# Altium schematic symbol library Oktay97-OT_Library.SchLib: 513 symbols (part 2 of 4)
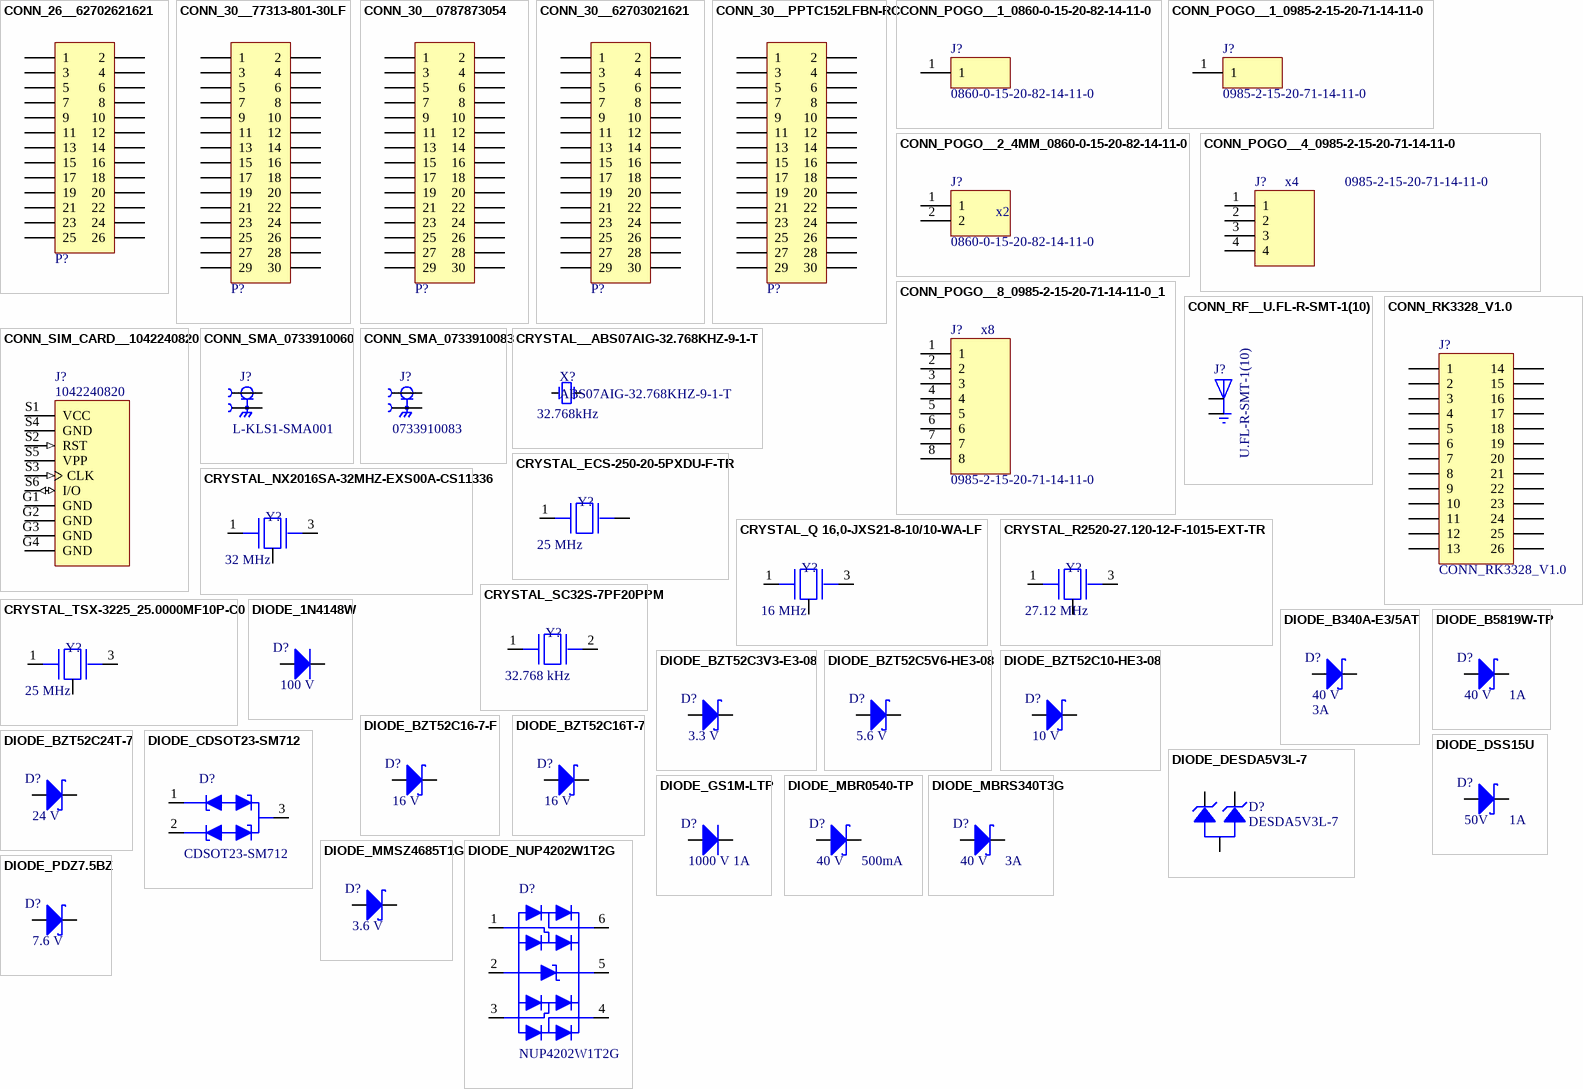
[diagram p18: symbols CONN_26__62702621621 to DIODE_PDZ7.5BZ]

## CRYSTAL_ECS-250-20-5PXDU-F-TR
designator Y?, comment Frequency: 25 MHz  (hidden comment: ECS-250-20-5PXDU-F-TR)
CRYSTAL 25.0000MHZ 20PF SMD; Manufacturer: ECS Inc.; Manufacturer Part Number: ECS-250-20-5PXDU-F-TR; Datasheet: https://ecsxtal.com/store/pdf/CSM_7X_DU.pdf; LCSC Part: C2450279
footprint OSC_SMD_HC-49/US (Crystal, 2-Leads, Body 4.70x11.40mm, Pitch 8.80mm, IPC Medium Density)
pins: 1, 2 (power)

## CRYSTAL_NX2016SA-32MHZ-EXS00A-CS11336
designator Y?, comment Frequency: 32 MHz  (hidden comment: NX2016SA-32MHZ-EXS00A-CS11336)
CRYSTAL 32.0000MHZ 8PF SMD; Manufacturer: NDK America, Inc.; Manufacturer Part Number: NX2016SA-32MHZ-EXS00A-CS11336; Datasheet: https://media.digikey.com/pdf/Data%20Sheets/NDK%20PDFs/NX2016SA-32MHz-EXS00A-CS11336.pdf; LCSC Part: C6134317; LCSC Part 2: C843260
footprint 4-SMD (0.126" L x 0.098" W (3.20mm x 2.50mm))
pins: 1, 2 GND (power), 3 2, 4 GND (power)

## CRYSTAL_Q 16,0-JXS21-8-10/10-WA-LF
designator Y?, comment Frequency: 16 MHz  (hidden comment: Q 16,0-JXS21-8-10/10-WA-LF)
CRYSTAL 16.0000MHZ 8PF SMD; Manufacturer: Jauch Quartz; Manufacturer Part Number: Q 16,0-JXS21-8-10/10-WA-LF; LCSC Part: C7294669
footprint CRYSTAL_4-SMD(2X1.6) (0.079" L x 0.063" W (2.00mm x 1.60mm))
pins: 1, 2 GND (power), 3 2, 4 GND (power)

## CRYSTAL_R2520-27.120-12-F-1015-EXT-TR
designator Y?, comment Frequency: 27.12 MHz  (hidden comment: R2520-27.120-12-F-1015-EXT-TR)
CRYSTAL 27.1200MHZ 12PF SMD; Manufacturer: Raltron Electronics; Manufacturer Part Number: R2520-27.120-12-F-1015-EXT-TR
footprint OSC_2.50mmX2.00mm (0.098" L x 0.079" W (2.50mm x 2.00mm))
pins: 1, 2 GND (power), 3 2, 4 GND (power)

## CRYSTAL_SC32S-7PF20PPM
designator Y?, comment Frequency: 32.768 kHz  (hidden comment: SC32S-7PF20PPM)
CRYSTAL 32.7680KHZ 7PF SMD; Manufacturer: Seiko Instruments; Manufacturer Part Number: SC32S-7PF20PPM; LCSC Part 2: C97604; LCSC Part: *
footprint 2-SMD, No Lead (0.126" L x 0.059" W (3.20mm x 1.50mm))
pins: 1, 2

## CRYSTAL_TSX-3225_25.0000MF10P-C0
designator Y?, comment Frequency: 25 MHz  (hidden comment: TSX-3225 25.0000MF10P-C0)
CRYSTAL 25.0000MHZ 18PF SMD; Manufacturer: EPSON; Manufacturer Part Number: TSX-3225 25.0000MF10P-C0; Datasheet: https://support.epson.biz/td/api/doc_check.php?dl=brief_TSX-3225&lang=en; LCSC Part: C179643
footprint 4-SMD (Footprint not found)
pins: 1, 2 GND (power), 3 2, 4 GND (power)

## DIODE_1N4148W
designator D?, comment Voltage - DC Reverse (Vr) (Max): 100 V  (hidden comment: 1N4148WS-HG3-08)
DIODE GEN PURP 100V 150MA SOD323; Manufacturer: Vishay General Semiconductor - Diodes Division; Manufacturer Part Number: 1N4148WS-HG3-08; Datasheet: https://www.mccsemi.com/pdf/Products/GS1A-L~GS1M-L(DO-214AC).pdf; Current - Average Rectified (Io): 150mA; LCSC Part: C3313072
footprint SOD-323 (SC-76, SOD-323)
pins: 1 K, 2 A

## DIODE_B340A-E3/5AT
designator D?, comment Voltage - DC Reverse (Vr) (Max): 40 V  Current - Average Rectified (Io): 3A  (hidden comment: B340A-E3/5AT)
DIODE SCHOTTKY 30V 1A SOD123W; Manufacturer: Vishay General Semiconductor - Diodes Division; Manufacturer Part Number: B340A-E3/5AT; LCSC Part: C15570
footprint DO-214AC (SMA)
pins: 1 K, 2 A

## DIODE_B5819W-TP
designator D?, comment Voltage - DC Reverse (Vr) (Max): 40 V  Current - Average Rectified (Io): 1A  (hidden comment: B5819W-TP)
DIODE SCHOTTKY 40V 1A SOD123; Manufacturer: Micro Commercial Co; Manufacturer Part Number: B5819W-TP; Datasheet: https://www.mccsemi.com/pdf/Products/B5817W-B5819W(SOD-123).pdf
footprint SOD-123
pins: 1 K, 2 A

## DIODE_BZT52C3V3-E3-08
designator D?, comment Voltage - Zener (Nom) (Vz): 3.3 V  (hidden comment: BZT52C3V3-E3-08)
DIODE ZENER 3.3V 410MW SOD123; Manufacturer: Vishay General Semiconductor - Diodes Division; Manufacturer Part Number: BZT52C3V3-E3-08; Datasheet: https://www.vishay.com/docs/86342/bzt52_series.pdf; Power - Max: 410 mW
footprint SOD-123W
pins: 1 K, 2 A

## DIODE_BZT52C5V6-HE3-08
designator D?, comment Voltage - Zener (Nom) (Vz): 5.6 V  (hidden comment: BZT52C5V6-HE3-08)
DIODE ZENER 5.6V 410MW SOD123; Manufacturer: Vishay General Semiconductor - Diodes Division; Manufacturer Part Number: BZT52C5V6-HE3-08; Datasheet: https://www.vishay.com/docs/86342/bzt52_series.pdf; Power - Max: 410 mW
footprint SOD-123W
pins: 1 K, 2 A

## DIODE_BZT52C10-HE3-08
designator D?, comment Voltage - Zener (Nom) (Vz): 10 V  (hidden comment: BZT52C10-HE3-08)
DIODE ZENER 10V 410MW SOD123; Manufacturer: Vishay General Semiconductor - Diodes Division; Manufacturer Part Number: BZT52C10-HE3-08; Datasheet: https://www.vishay.com/docs/86342/bzt52_series.pdf; Power - Max: 410 mW; LCSC Part: C3728418; LCSC Part 2: C2103
footprint SOD-123W
pins: 1 K, 2 A

## DIODE_BZT52C16-7-F
designator D?, comment Voltage - Zener (Nom) (Vz): 16 V  (hidden comment: BZT52C16-7-F)
DIODE ZENER 16V 500MW SOD123; Manufacturer: Diodes Incorporated; Manufacturer Part Number: BZT52C16-7-F; Power - Max: 500 mW
footprint SOD-123
pins: 1 K, 2 A

## DIODE_BZT52C16T-7
designator D?, comment Voltage - Zener (Nom) (Vz): 16 V  (hidden comment: BZT52C16T-7)
DIODE ZENER 16V 300MW SOD523; Manufacturer: Vishay General Semiconductor - Diodes Division; Manufacturer Part Number: BZT52C16T-7; Power - Max: 300 mW
footprint SOD-523 (SC-79, SOD-523)
pins: 1 K, 2 A

## DIODE_BZT52C24T-7
designator D?, comment Voltage - Zener (Nom) (Vz): 24 V  (hidden comment: BZT52C24T-7)
DIODE ZENER 24V 300MW SOD523; Manufacturer: Diodes Incorporated; Manufacturer Part Number: BZT52C24T-7; Power - Max: 300 mW; LCSC Part: C780794
footprint SOD-523 (SC-79, SOD-523)
pins: 1 K, 2 A

## DIODE_CDSOT23-SM712
designator D?, comment CDSOT23-SM712
TVS DIODE 7V/12V 14V/26V SOT23-3; Manufacturer: Bourns Inc.; Manufacturer Part Number: CDSOT23-SM712; Applications: RS-485; Datasheet: https://www.bourns.com/docs/Product-Datasheets/CDSOT23-SM712.pdf; LCSC Part: C404012
footprint SOT-23 (TO-236AB)
pins: 1 C1, 2 C2, 3 CC

## DIODE_DESDA5V3L-7
designator D?, comment DESDA5V3L-7
TVS DIODE 3VWM 15VC SOT23; Manufacturer: Diodes Incorporated; Manufacturer Part Number: DESDA5V3L-7
footprint SOT-23-3 (TO-236-3, SC-59, SOT-23-3)
pins: 1 K, 2 K, 3 A

## DIODE_DSS15U
designator D?, comment Voltage - DC Reverse (Vr) (Max): 50V  Current - Average Rectified (Io): 1A  (hidden comment: DSS15U)
DIODE SCHOTTKY 50V 1A SOD123FL; Manufacturer: SMC Diode Solutions; Manufacturer Part Number: DSS15U; LCSC Part: C3020461
footprint SOD123FL
pins: 1 K, 2 A

## DIODE_GS1M-LTP
designator D?, comment Voltage - DC Reverse (Vr) (Max): 1000 V  Current - Average Rectified (Io): 1A  (hidden comment: GS1M-LTP)
DIODE GEN PURP 1KV 1A DO214AC; Manufacturer: Micro Commercial Co; Manufacturer Part Number: GS1M-LTP; Datasheet: https://www.mccsemi.com/pdf/Products/GS1A-L~GS1M-L(DO-214AC).pdf; LCSC Part: C435833
footprint DO-214AC (SMA)
pins: 1 K, 2 A

## DIODE_MBR0540-TP
designator D?, comment Voltage - DC Reverse (Vr) (Max): 40 V  Current - Average Rectified (Io): 500mA  (hidden comment: MBR0540-TP)  (mechanical)
DIODE SCHOTTKY 40V 500MA SOD123; Manufacturer: Micro Commercial Co; Manufacturer Part Number: MBR0540-TP; LCSC Part: C232833
footprint SOD-123
pins: 1 K, 2 A

## DIODE_MBRS340T3G
designator D?, comment Voltage - DC Reverse (Vr) (Max): 40 V  Current - Average Rectified (Io): 3A  (hidden comment: MBRS340T3G)
DIODE SCHOTTKY 40V 3A SMC; Manufacturer: onsemi; Manufacturer Part Number: MBRS340T3G; LCSC Part: C40326
footprint DO-214AB (SMC)
pins: 1 K, 2 A

## DIODE_MMSZ4685T1G
designator D?, comment Voltage - Zener (Nom) (Vz): 3.6 V  (hidden comment: MMSZ4685T1G)
DIODE ZENER 3.6V 500MW SOD123; Manufacturer: onsemi; Manufacturer Part Number: MMSZ4685T1G; Power - Max: 500 mW; LCSC Part: C66886
footprint SOD-123
pins: 1 K, 2 A

## DIODE_NUP4202W1T2G
designator D?, comment NUP4202W1T2G
TVS DIODE 5VWM 14.5V SC88/SC70-6; Manufacturer: onsemi; Manufacturer Part Number: NUP4202W1T2G
footprint 6-TSSOP (6-TSSOP, SC-88, SOT-363)
pins: 1 I/O, 2 GND, 3 I/O, 4 I/O, 5 VCC, 6 I/O

## DIODE_PDZ7.5BZ
designator D?, comment Voltage - Zener (Nom) (Vz): 7.6 V  (hidden comment: PDZ7.5BZ)
DIODE ZENER 7.6V 400MW SOD323; Manufacturer: Nexperia USA Inc.; Manufacturer Part Number: PDZ7.5BZ; Power - Max: 400 mW; LCSC Part: C85404
footprint SOD-323 (SC-76, SOD-323)
pins: 1 K, 2 A

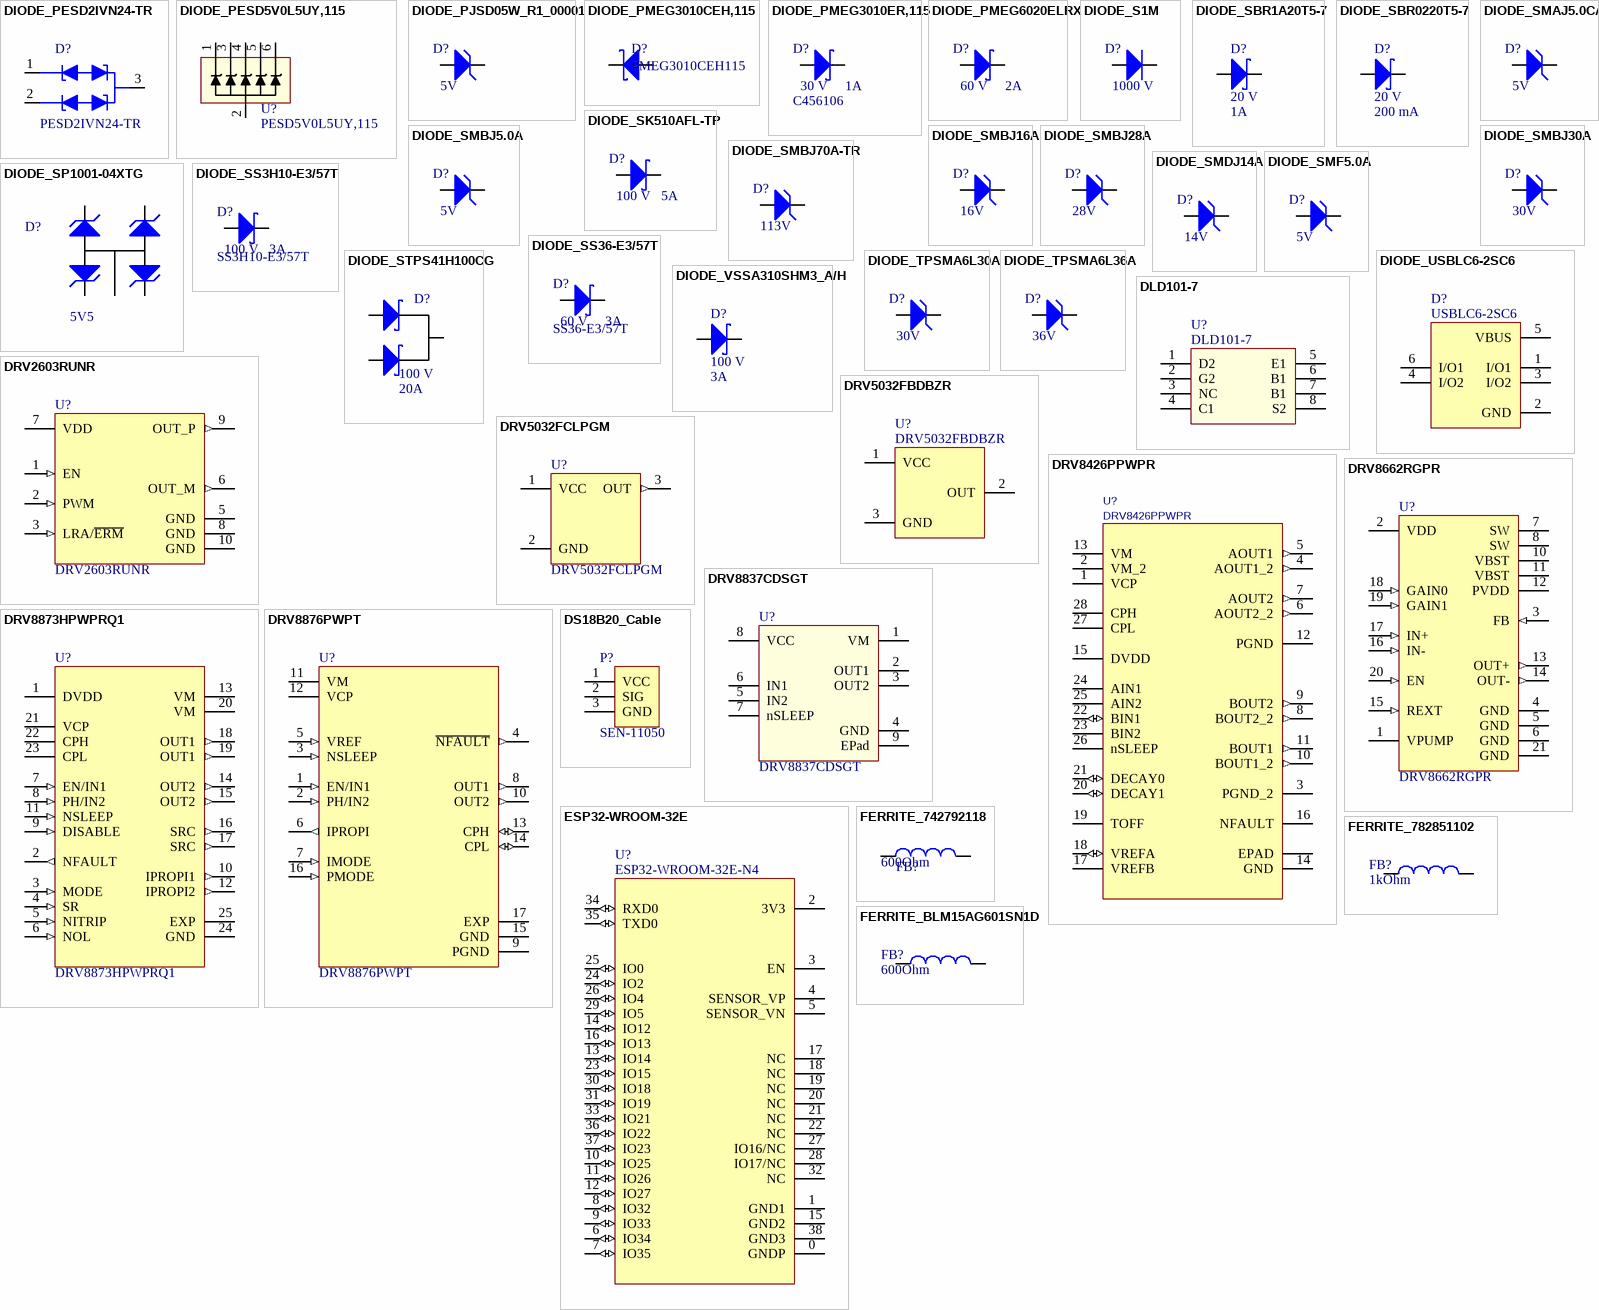
[diagram p5: symbols DIODE_PESD2IVN24-TR to FERRITE_BLM15AG601SN1D]

## DIODE_PESD2IVN24-TR
designator D?, comment PESD2IVN24-TR
TVS DIODE 24VWM 42VC TO236AB; Manufacturer: Nexperia USA Inc.; Manufacturer Part Number: PESD2IVN24-TR; Applications: Automotive, CAN; Datasheet: https://assets.nexperia.com/documents/data-sheet/PESD2IVN24-T.pdf
footprint SOT-23 (TO-236AB)
pins: 1 C1, 2 C2, 3 CC

## DIODE_PESD5V0L5UY,115
designator U?, comment PESD5V0L5UY,115
TVS DIODE 5VWM 12VC 6TSSOP; Manufacturer: NEXPERIA; LCSC Part: C179747; Manufacturer Part Number: PESD5V0L5UY,115; ComponentLink1URL: http://www.tme.eu/en/details/pesd5v0l5uy.115/transil-diodes-arrays/nexperia/pesd5v0l5uy-115/; ComponentLink1Description: http://www.tme.eu/en/details/pesd5v0l5uy.115/transil-diodes-arrays/nexperia/pesd5v0l5uy-115/
footprint 6-TSSOP (6-TSSOP, SC-88, SOT-363)
pins: 1, 2, 3, 4, 5, 6

## DIODE_PJSD05W_R1_00001
designator D?, comment Voltage - Reverse Standoff (Typ): 5V  (hidden comment: PJSD05W_R1_00001)
TVS DIODE 5VWM 9.8VC SOD323; Manufacturer: Panjit International Inc.; Manufacturer Part Number: PJSD05W_R1_00001
footprint SOD-323 (SC-76, SOD-323)
pins: 1 K, 2 A

## DIODE_PMEG3010CEH,115
designator D?, comment PMEG3010CEH115
Diode Schottky 30 V 1A (DC) Surface Mount SOD-123F; Manufacturer: NXP Semiconductors; Element Configuration: Single; Max Reverse Current: 50uA; Max Surge Current: 9A; Max Repetitive Reverse Voltage (Vrrm): 30V; Forward Voltage: 520mV; Supplier 1: Future Electronics; Manufacturer Part Number: PMEG3010CEH115; Stock 1: 0; Mount: Surface Mount; Number of Pins: 2; Min Operating Temperature: -65°C; Max Operating Temperature: 150°C; Packaging: Tape and Reel; Forward Current: 1A; Package Quantity: 1; Max Reverse Leakage Current: 50uA; Peak Non-Repetitive Surge Current: 9A; Average Rectified Current: 1A; Max Forward Surge Current (Ifsm): 9A; Max Reverse Voltage (DC): 30V; Series: 1A (DC); Length: 2.7mm; Width: 1.7mm; Height: 1.2mm; Radiation Hardening: No; Lead Free: Lead Free; ComponentLink1URL: http://www.nxp.com/documents/data_sheet/PMEG3010CEH_PMEG3010CEJ.pdf?src-supplier=Digi-Key; ComponentLink1Description: http://www.nxp.com/documents/data_sheet/PMEG3010CEH_PMEG3010CEJ.pdf?src-supplier=Digi-Key; ComponentLink2URL: http://www.nxp.com/documents/data_sheet/PMEG3010CEH_PMEG3010CEJ.pdf?src-supplier=Future+Electronics; ComponentLink2Description: http://www.nxp.com/documents/data_sheet/PMEG3010CEH_PMEG3010CEJ.pdf?src-supplier=Future+Electronics; Supplier Part Number 1: PMEG3010CEH,115
footprint SOD-123F
pins: 1 K, 2 A

## DIODE_PMEG3010ER,115
designator D?, comment Voltage - DC Reverse (Vr) (Max): 30 V  Current - Average Rectified (Io): 1A  LCSC Part: C456106  (hidden comment: PMEG3010ER,115)
DIODE SCHOTTKY 30V 1A SOD123W; Manufacturer: Nexperia USA Inc.; Manufacturer Part Number: PMEG3010ER,115; Datasheet: https://assets.nexperia.com/documents/data-sheet/PMEG3010ER.pdf
footprint SOD-123W
pins: 1 K, 2 A

## DIODE_PMEG6020ELRX
designator D?, comment Voltage - DC Reverse (Vr) (Max): 60 V  Current - Average Rectified (Io): 2A  (hidden comment: PMEG6020ELRX)
DIODE SCHOTTKY 60V 2A SOD123W; Manufacturer: Nexperia USA Inc.; Manufacturer Part Number: PMEG6020ELRX; Datasheet: https://assets.nexperia.com/documents/data-sheet/PMEG6020ELR.pdf
footprint SOD-123W
pins: 1 K, 2 A

## DIODE_S1M
designator D?, comment Voltage - DC Reverse (Vr) (Max): 1000 V  (hidden comment: S1M)
DIODE GEN PURP 1KV 1A SMA; Manufacturer: SMC Diode Solutions; Manufacturer Part Number: S1M; Current - Average Rectified (Io): 1A; LCSC Part: C232826
footprint DO-214AC (SMA)
pins: 1 K, 2 A

## DIODE_SBR1A20T5-7
designator D?, comment Voltage - DC Reverse (Vr) (Max): 20 V  Current - Average Rectified (Io): 1A  (hidden comment: SBR1A20T5-7)
DIODE SBR 20V 1A SOD523; Manufacturer: Diodes Incorporated; Manufacturer Part Number: SBR1A20T5-7; LCSC Part: C5157758
footprint SOD-523 (SC-79, SOD-523)
pins: 1 K, 2 A

## DIODE_SBR0220T5-7
designator D?, comment Voltage - DC Reverse (Vr) (Max): 20 V  Current - Average Rectified (Io): 200 mA  (hidden comment: SBR0220T5-7)
DIODE SBR 20V 200MA SOD523; Manufacturer: Diodes Incorporated; Manufacturer Part Number: SBR0220T5-7; LCSC Part: C700438
footprint SOD-523 (SC-79, SOD-523)
pins: 1 K, 2 A

## DIODE_SK510AFL-TP
designator D?, comment Voltage - DC Reverse (Vr) (Max): 100 V  Current - Average Rectified (Io): 5A  (hidden comment: SK510AFL-TP)
DIODE SCHOTTKY 100V 5A DO221AC; Manufacturer: Micro Commercial Co; Manufacturer Part Number: SK510AFL-TP; Datasheet: https://www.mccsemi.com/pdf/Products/SK52AFL-SK5200AFL(DO-221AC).pdf; LCSC Part: C5241914
footprint DO-221AC (SMA-FL)
pins: 1 K, 2 A

## DIODE_SMAJ5.0CA
designator D?, comment Voltage - Reverse Standoff (Typ): 5V  (hidden comment: SMAJ5.0CA)
TVS DIODE 5VWM 9.2VC DO214AC; Manufacturer: Littelfuse Inc.; Manufacturer Part Number: SMAJ5.0CA; LCSC Part: C83324
footprint DO-214AC (SMA)
pins: 1 K, 2 A

## DIODE_SMBJ5.0A
designator D?, comment Voltage - Reverse Standoff (Typ): 5V  (hidden comment: SMBJ5.0A)
TVS DIODE 5VWM 9.2VC DO214AA; Manufacturer: Littelfuse Inc.; Manufacturer Part Number: SMBJ5.0A; LCSC Part: C83333
footprint DO-214AA (SMBJ)
pins: 1 K, 2 A

## DIODE_SMBJ16A
designator D?, comment Voltage - Reverse Standoff (Typ): 16V  (hidden comment: SMBJ16A)
TVS DIODE 16VWM 26VC DO214AA; Manufacturer: Littelfuse Inc.; Manufacturer Part Number: SMBJ16A; Datasheet: https://www.littelfuse.com/~/media/electronics/datasheets/tvs_diodes/littelfuse_tvs_diode_smbj_datasheet.pdf.pdf; LCSC Part: C151254
footprint DO-214AA (SMBJ)
pins: 1 K, 2 A

## DIODE_SMBJ28A
designator D?, comment Voltage - Reverse Standoff (Typ): 28V  (hidden comment: SMBJ28A)
TVS DIODE 28VWM 45.4VC DO214AA; Manufacturer: Littelfuse Inc.; Manufacturer Part Number: SMBJ28A; LCSC Part: C178227
footprint DO-214AA (SMBJ)
pins: 1 K, 2 A

## DIODE_SMBJ30A
designator D?, comment Voltage - Reverse Standoff (Typ): 30V  (hidden comment: SMBJ30A)
TVS DIODE 30VWM 48.4VC DO214AA; Manufacturer: Littelfuse Inc.; Manufacturer Part Number: SMBJ30A; LCSC Part: C83851
footprint DO-214AA (SMBJ)
pins: 1 K, 2 A

## DIODE_SMBJ70A-TR
designator D?, comment Voltage - Reverse Standoff (Typ): 113V  (hidden comment: SMBJ70A-TR)
TVS DIODE 70VWM 113VC SMB; Manufacturer: STMicroelectronics; Manufacturer Part Number: SMBJ70A-TR
footprint DO-214AA (SMBJ)
pins: 1 K, 2 A

## DIODE_SMDJ14A
designator D?, comment Voltage - Reverse Standoff (Typ): 14V  (hidden comment: SMDJ14A)
TVS DIODE 14VWM 23.2VC DO214AB; Manufacturer: Littelfuse Inc.; Manufacturer Part Number: SMDJ14A; LCSC Part: C1975662
footprint DO-214AB (SMC)
pins: 1 K, 2 A

## DIODE_SMF5.0A
designator D?, comment Voltage - Reverse Standoff (Typ): 5V  (hidden comment: SMF5.0A)
TVS SOD123FL 5V 200W UNIDIR; Manufacturer: Littelfuse Inc.; Manufacturer Part Number: SMF5.0A
footprint SOD123FL
pins: 1 K, 2 A

## DIODE_SP1001-04XTG
designator D?, comment Voltage - Reverse Standoff (Typ): 5V5  (hidden comment: SP1001-04XTG)
TVS DIODE 5.5VWM 13VC SOT553; Manufacturer: Littelfuse Inc.; Manufacturer Part Number: SP1001-04XTG; LCSC Part: C1973878
footprint SOT-553
pins: 1 D1, 2 D2, 3 D3, 4 D4, 5 D5

## DIODE_SS3H10-E3/57T
designator D?, comment Voltage - DC Reverse (Vr) (Max): 100 V  Current - Average Rectified (Io): 3A  (hidden comment: SS3H10-E3/57T)
DIODE SCHOTTKY 100V 3A DO214AB; Manufacturer: Vishay General Semiconductor - Diodes Division; LCSC Part: C2927417; Manufacturer Part Number: SS3H10-E3/57T
footprint DO-214AB (SMC)
pins: 1 K, 2 A

## DIODE_SS36-E3/57T
designator D?, comment Voltage - DC Reverse (Vr) (Max): 60 V  Current - Average Rectified (Io): 3A  (hidden comment: SS36-E3/57T)
DIODE SCHOTTKY 60V 3A DO214AB; Manufacturer: Vishay General Semiconductor - Diodes Division; LCSC Part: C35722; Manufacturer Part Number: SS36-E3/57T
footprint DO-214AB (SMC)
pins: 1 K, 2 A

## DIODE_STPS41H100CG
designator D?, comment Voltage - DC Reverse (Vr) (Max): 100 V  Current - Average Rectified (Io): 20A  (hidden comment: STPS41H100CG)
DIODE ARR SCHOTT 100V 20A D2PAK; Manufacturer: STMicroelectronics; Manufacturer Part Number: STPS41H100CG; LCSC Part: C2970806
footprint PG-TO263-3 (TO-263-3, D2PAK (2 Leads + Tab), TO-263AB)
pins: 1 A, 2 K, 3 A

## DIODE_TPSMA6L30A
designator D?, comment Voltage - Reverse Standoff (Typ): 30V  (hidden comment: TPSMA6L30A)
TVS DIODE 30VWM 48.4VC DO221AC; Manufacturer: Littelfuse Inc.; Manufacturer Part Number: TPSMA6L30A; Datasheet: https://www.littelfuse.com/~/media/electronics/datasheets/tvs_diodes/littelfuse_tvs_diode_tpsma6l_datasheet.pdf.pdf
footprint DO-221AC (SMA-FL)
pins: 1 K, 2 A

## DIODE_TPSMA6L36A
designator D?, comment Voltage - Reverse Standoff (Typ): 36V  (hidden comment: TPSMA6L36A)
TVS DIODE 36VWM 58.1VC DO221AC; Manufacturer: Littelfuse Inc.; Manufacturer Part Number: TPSMA6L36A; Datasheet: https://www.littelfuse.com/~/media/electronics/datasheets/tvs_diodes/littelfuse_tvs_diode_tpsma6l_datasheet.pdf.pdf
footprint DO-221AC (SMA-FL)
pins: 1 K, 2 A

## DIODE_USBLC6-2SC6
designator D?, comment USBLC6-2SC6
TVS DIODE 5.25VWM 17VC SOT23-6; Manufacturer: STMicroelectronics; Voltage - Reverse Standoff (Typ): 5.25 V; Manufacturer Part Number: USBLC6-2SC6; Datasheet: https://www.st.com/content/ccc/resource/technical/document/datasheet/06/1d/48/9c/6c/20/4a/b2/CD00050750.pdf/files/CD00050750.pdf/jcr:content/translations/en.CD00050750.pdf; LCSC Part: C7519
footprint SOT-23-6
pins: 1 I/O1, 2 GND, 3 I/O2, 4 I/O2, 5 VBUS, 6 I/O1

## DIODE_VSSA310SHM3_A/H
designator D?, comment Voltage - DC Reverse (Vr) (Max): 100 V  Current - Average Rectified (Io): 3A  (hidden comment: VSSA310SHM3_A/H)
DIODE SCHOTTKY 100V 3A DO214AC; Manufacturer: Vishay General Semiconductor - Diodes Division; Manufacturer Part Number: VSSA310SHM3_A/H; Datasheet: https://www.vishay.com/docs/89405/vssa310s.pdf; LCSC Part: C282271
footprint DO-214AC (SMA)
pins: 1 K, 2 A

## DLD101-7
designator U?
IC LED DRIVER LINEAR DIM 1A 8DFN; Manufacturer: Diodes Incorporated; Manufacturer Part Number: DLD101-7; LCSC Part: C445014
footprint DFN3030D-8
pins: 1 D2, 2 G2, 3 NC, 4 C1, 5 E1, 6 B1, 7 B1, 8 S2

## DRV2603RUNR
designator U?
IC MOTOR DRIVER 2.5V-5.2V 10QFN; Manufacturer: Texas Instruments; Manufacturer Part Number: DRV2603RUNR; LCSC Part: C75424
footprint 10-WQFN (2x2)
pins: 1 EN (in), 2 PWM (in), 3 LRA/~{ERM} (in), 5 GND (power), 6 OUT_M (out), 7 VDD (power), 8 GND (power), 9 OUT_P (out), 10 GND (power)

## DRV5032FBDBZR
designator U?
MAGNETIC SWITCH OMNIPOL SOT23-3; Manufacturer: Texas Instruments; Function: Omnipolar Switch; Polarization: North Pole, South Pole; Voltage - Supply: 1.65V ~ 5.5V; Current - Supply (Max): 1.8µA; Output Type: Push-Pull; Manufacturer Part Number: DRV5032FBDBZR; Category: Magnetic Sensors; Operating Temperature: -40°C ~ 85°C
footprint SOT-23 (TO-236AB)
pins: 1 VCC, 2 OUT, 3 GND

## DRV5032FCLPGM
designator U?
MAGNETIC SWITCH OMNIPOLAR TO92-3; Manufacturer: Texas Instruments; Manufacturer Part Number: DRV5032FCLPGM; LCSC Part: C2866256; LCSC Part 2: C2862715
footprint TO-92-3 (Footprint not found)
pins: 1 VCC (power), 2 GND (power), 3 OUT (out)

## DRV8426PPWPR
designator U?
35-V, 1.5-A BIPOLAR STEPPER OR D; Manufacturer: Texas Instruments; Manufacturer Part Number: DRV8426PPWPR; Datasheet: https://www.ti.com/general/docs/suppproductinfo.tsp?distId=10&gotoUrl=http%3A%2F%2Fwww.ti.com%2Flit%2Fgpn%2Fdrv8426e
footprint HTSSOP-28
pins: 1 VCP, 2 VM_2, 3 PGND_2 (power), 4 AOUT1_2 (out), 5 AOUT1 (out), 6 AOUT2_2 (out), 7 AOUT2 (out), 8 BOUT2_2 (out), 9 BOUT2 (out), 10 BOUT1_2 (out), 11 BOUT1 (out), 12 PGND (power), 13 VM, 14 GND (power), 15 DVDD (power), 16 NFAULT, 17 VREFB (power), 18 VREFA (io), 19 TOFF, 20 DECAY1 (io), 21 DECAY0 (io), 22 BIN1 (io), 23 BIN2, 24 AIN1, 25 AIN2, 26 nSLEEP, 27 CPL, 28 CPH, EPAD

## DRV8662RGPR
designator U?
IC MOTOR DRIVER 3V-5.5V 20QFN; Manufacturer: Texas Instruments; Manufacturer Part Number: DRV8662RGPR; LCSC Part: C2653565
footprint 20-VFQFN Exposed Pad (Footprint not found)
pins: 1 VPUMP (power), 2 VDD (power), 3 FB (in), 4 GND (power), 5 GND (power), 6 GND (power), 7 SW (power), 8 SW (power), 10 VBST (power), 11 VBST (power), 12 PVDD (power), 13 OUT+ (out), 14 OUT- (out), 15 REXT (in), 16 IN- (in), 17 IN+ (in), 18 GAIN0 (in), 19 GAIN1 (in), 20 EN (in), 21 GND (power)

## DRV8837CDSGT
designator U?
IC HALF-BRIDGE DRVR PWM 8WSON; Manufacturer: Texas Instruments; Manufacturer Part Number: DRV8837CDSGT; LCSC Part: C165115
footprint 8-WFDFN (2x2) Exposed Pad
pins: 1 VM, 2 OUT1, 3 OUT2, 4 GND, 5 IN2, 6 IN1, 7 nSLEEP, 8 VCC, 9 EPad

## DRV8873HPWPRQ1
designator U?
IC MOTOR DRIVER STEP 5V 24HTSSOP; Manufacturer: Texas Instruments; Manufacturer Part Number: DRV8873HPWPRQ1; LCSC Part: C2150604
footprint 24-HTSSOP (24-PowerTSSOP (0.173", 4.40mm Width))
pins: 1 DVDD (power), 2 NFAULT (out), 3 MODE (in), 4 SR (in), 5 NITRIP (in), 6 NOL (in), 7 EN/IN1 (in), 8 PH/IN2 (in), 9 DISABLE (in), 10 IPROPI1 (out), 11 NSLEEP (in), 12 IPROPI2 (out), 13 VM (power), 14 OUT2 (out), 15 OUT2 (out), 16 SRC (out), 17 SRC (out), 18 OUT1 (out), 19 OUT1 (out), 20 VM (power), 21 VCP (power), 22 CPH (power), 23 CPL (power), 24 GND (power), 25 EXP

## DRV8876PWPT
designator U?
IC MOTOR DRIVER DC 5.5V 16HTSSOP; Manufacturer: Texas Instruments; Manufacturer Part Number: DRV8876PWPT; Datasheet: https://www.ti.com/general/docs/suppproductinfo.tsp?distId=10&gotoUrl=https%3A%2F%2Fwww.ti.com%2Flit%2Fgpn%2Fdrv8876; LCSC Part: C575551
footprint 16-HTSSOP (16-PowerTSSOP (0.173", 4.40mm Width))
pins: 1 EN/IN1 (in), 2 PH/IN2 (in), 3 NSLEEP (in), 4 ~{NFAULT} (out), 5 VREF (in), 6 IPROPI (out), 7 IMODE (in), 8 OUT1 (out), 9 PGND (power), 10 OUT2 (out), 11 VM (power), 12 VCP (power), 13 CPH (io), 14 CPL (io), 15 GND (power), 16 PMODE (in), 17 EXP

## DS18B20_Cable
designator P?, comment SEN-11050
TEMP SENSOR WTRPRF DS18B20 11050; Manufacturer: SparkFun Electronics; Manufacturer Part Number: SEN-11050
footprint DS18B20_Cable (Footprint not found)
pins: 1 VCC, 2 SIG, 3 GND

## ESP32-WROOM-32E
designator U?, comment ESP32-WROOM-32E-N4
RF TXRX MOD WIFI TRACE ANT SMD; Manufacturer: ESPRESSIF; Unit: pcs; SuppliedAmount: 0; MinAmount: 1; Type of communications module: IoT; Kind of network: Bluetooth Low Energy; Kind of antenna: PCB; Supply voltage: 3...3.6V DC; Interface: GPIO; Transmitter output power: 19.5dBm; Receiver sensitivity: -97dBm; Band: 2.412...2.484GHz; Flash memory capacity: 4MB; Components: ESP32-D0WD-V3; Number of cores: 2; Supplier 1: TME; Manufacturer Part Number: ESP32-WROOM-32E-N4; Category: IoT (WiFi/Bluetooth) modules; Stock 1: 2571; Pricing 1: 1=3.25, 5=3.15, 25=3.05, 100=2.9, 650=2.7 (USD); Weight: 2.482; Multiples: 1; Price Type: NET; Mounting: SMD; Dimensions: 18x25.5x3.1mm; ComponentLink1URL: http://www.tme.eu/en/details/esp32-wroom-32e/iot-wifi-bluetooth-modules/espressif/esp32-wroom-32e-n4/; ComponentLink1Description: http://www.tme.eu/en/details/esp32-wroom-32e/iot-wifi-bluetooth-modules/espressif/esp32-wroom-32e-n4/; Supplier Part Number 1: ESP32-WROOM-32E
footprint ESP32-WROVER-E / WROOM-E
footprint ESP32-WROOM-32E
pins: 0 GNDP, 1 GND1, 2 3V3 (power), 3 EN (power), 4 SENSOR_VP (power), 5 SENSOR_VN, 6 IO34 (io), 7 IO35 (io), 8 IO32 (io), 9 IO33 (io), 10 IO25 (io), 11 IO26 (io), 12 IO27 (io), 13 IO14 (io), 14 IO12 (io), 15 GND2, 16 IO13 (io), 17 NC, 18 NC, 19 NC, 20 NC, 21 NC, 22 NC, 23 IO15 (io), 24 IO2 (io), 25 IO0 (io), 26 IO4 (io), 27 IO16/NC, 28 IO17/NC, 29 IO5 (io), 30 IO18 (io), 31 IO19 (io), 32 NC, 33 IO21 (io), 34 RXD0 (io), 35 TXD0 (io), 36 IO22 (io), 37 IO23 (io), 38 GND3

## FERRITE_742792118
designator FB?, comment Impedance @100MHz: 600Ohm  (hidden comment: 742792118)
FERRITE BEAD 600 OHM 1206 1LN; Manufacturer: Wurth Elektronik; DC Resistance Max: 0.07Ohm; Impedance Max: 650Ohm; Impedance Max Test Condition: 80MHz; Manufacturer Part Number: 742792118; Datasheet: https://www.we-online.com/katalog/datasheet/742792118.pdf
footprint FERRITE_1206 (SMD EMI Suppression Ferrite  Bead, body 3.20x1.60mm)
pins: 1, 2

## FERRITE_782851102
designator FB?, comment Impedance @100MHz: 1kOhm  (hidden comment: 782851102)
FERRITE BEAD 1K OHM 0805 1LN; Manufacturer: Wurth Elektronik; DC Resistance Max: 350mOhm; Manufacturer Part Number: 782851102
footprint FERRITE_0805 (SMD EMI Suppression Ferrite Bead, 2-Leads, body 2.00x1.20mm)
pins: 1, 2

## FERRITE_BLM15AG601SN1D
designator FB?, comment Impedance @100MHz: 600Ohm  (hidden comment: BLM15AG601SN1D)
FERRITE BEAD 600 OHM 0402 1LN; Manufacturer: Murata Electronics; DC Resistance Max: 520mOhm; Manufacturer Part Number: BLM15AG601SN1D
footprint FERRITE_0402 (0.039" L x 0.022" W (1.00mm x 0.55mm))
pins: 1, 2

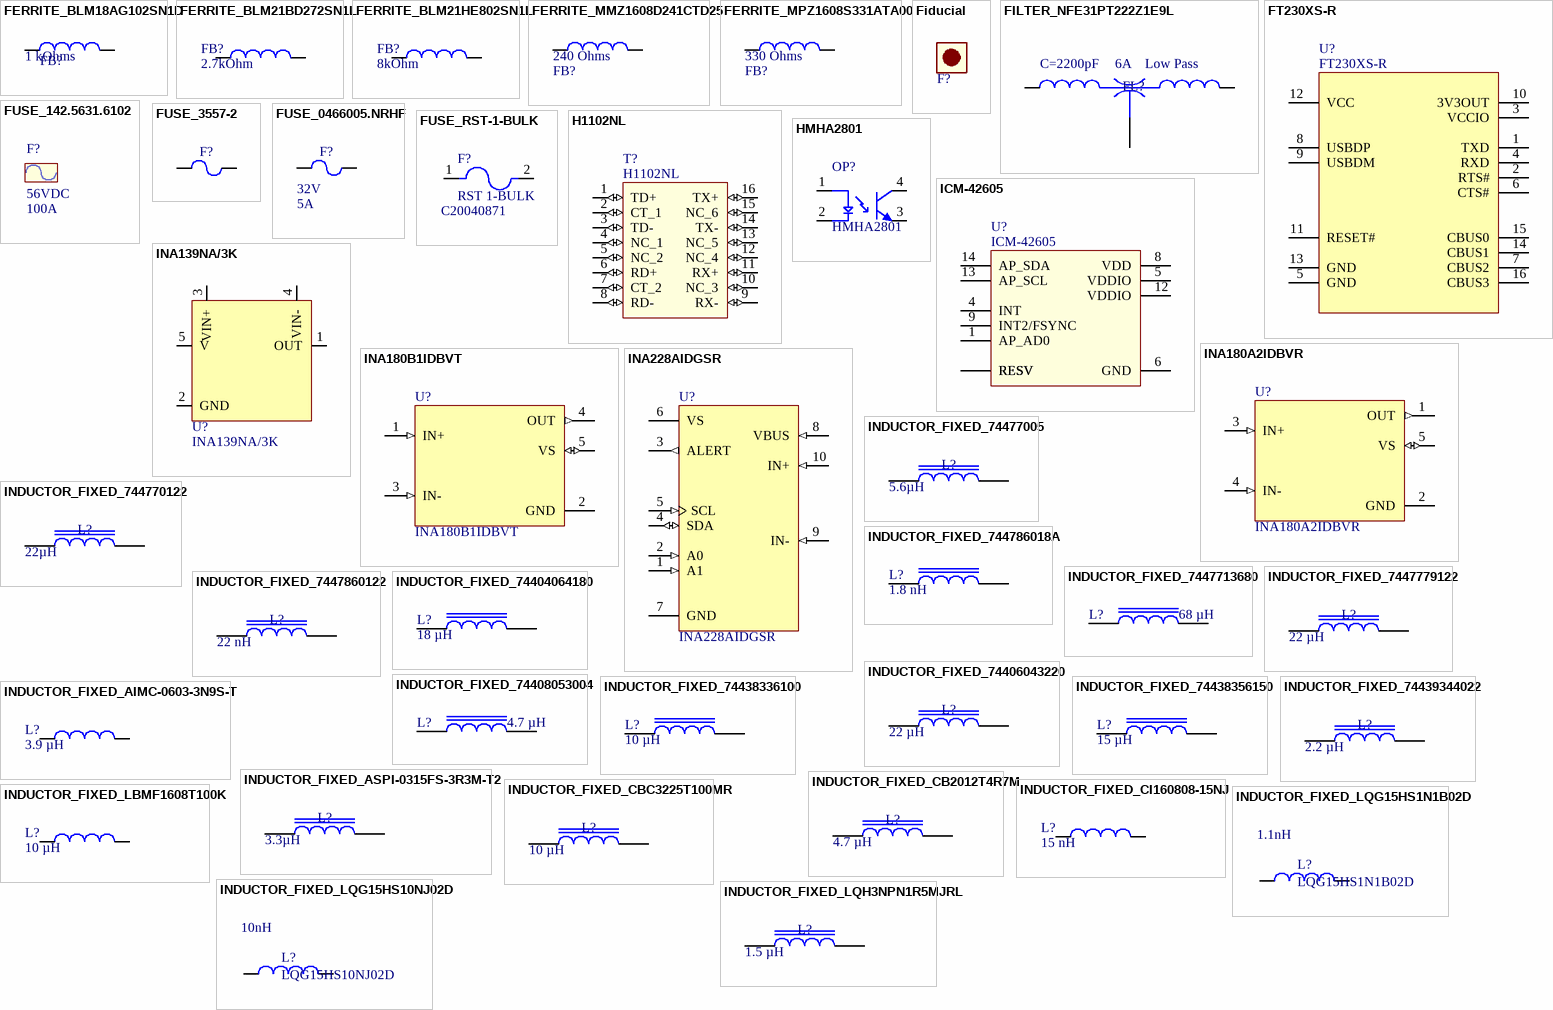
[diagram p6: symbols FERRITE_BLM18AG102SN1D to INDUCTOR_FIXED_LQH3NPN1R5MJRL]

## FERRITE_BLM18AG102SN1D
designator FB?, comment Impedance @100MHz: 1 kOhms  (hidden comment: BLM18AG102SN1D)
FERRITE BEAD 1K OHM 0603 1LN; Manufacturer: Murata Electronics; DC Resistance Max: 500mOhm; Current Rating (Max): 450mA; Manufacturer Part Number: BLM18AG102SN1D; Datasheet: https://www.murata.com/en-us/products/productdata/8796738650142/ENFA0003.pdf
footprint FERRITE_0603 (0.063" L x 0.032" W (1.60mm x 0.80mm))
pins: 1, 2

## FERRITE_BLM21BD272SN1L
designator FB?, comment Impedance @100MHz: 2.7kOhm  (hidden comment: BLM21BD272SN1L)
FERRITE BEAD 2.7K OHM 0805 1LN; Manufacturer: Murata Electronics; DC Resistance Max: 800mOhm; Manufacturer Part Number: BLM21BD272SN1L
footprint FERRITE_0805 (SMD EMI Suppression Ferrite Bead, 2-Leads, body 2.00x1.20mm)
pins: 1, 2

## FERRITE_BLM21HE802SN1L
designator FB?, comment Impedance @100MHz: 8kOhm  (hidden comment: BLM21HE802SN1L)
FERRITE BEAD 8K OHM 0805 1LN; Manufacturer: Murata Electronics; DC Resistance Max: 700mOhm; Manufacturer Part Number: BLM21HE802SN1L
footprint FERRITE_0805 (SMD EMI Suppression Ferrite Bead, 2-Leads, body 2.00x1.20mm)
pins: 1, 2

## FERRITE_MMZ1608D241CTD25
designator FB?, comment Impedance @100MHz: 240 Ohms  (hidden comment: MMZ1608D241CTD25)
FERRITE BEAD 240 OHM 0603 1LN; Manufacturer: TDK Corporation; DC Resistance Max: 600mOhm; Current Rating (Max): 300 mA; Manufacturer Part Number: MMZ1608D241CTD25; LCSC Part: C2661641
footprint FERRITE_0603 (0.063" L x 0.032" W (1.60mm x 0.80mm))
pins: 1, 2

## FERRITE_MPZ1608S331ATA00
designator FB?, comment Impedance @100MHz: 330 Ohms  (hidden comment: MPZ1608S331ATA00)
FERRITE BEAD 330 OHM 0603 1LN; Manufacturer: TDK Corporation; DC Resistance Max: 80mOhm; Current Rating (Max): 1.7A; Manufacturer Part Number: MPZ1608S331ATA00; LCSC Part: C275487
footprint FERRITE_0603 (0.063" L x 0.032" W (1.60mm x 0.80mm))
pins: 1, 2

## Fiducial
designator F?, comment Pick_and_place  (value not drawn)  (no BOM)
Pick & Place Reference point; Manufacturer Part Number: Pick_and_place
footprint FIDUCIAL_C

## FILTER_NFE31PT222Z1E9L
designator FL?, comment Type: Low Pass  Values: C=2200pF  Current: 6A  (hidden comment: NFE31PT222Z1E9L)
FILTER LC(T) 2200PF SMD; Manufacturer: Murata Electronics; Manufacturer Part Number: NFE31PT222Z1E9L; Datasheet: https://www.murata.com/en-global/products/productdata/8796766699550/ENFE0002.pdf
footprint FILTER_1206 (1206 (3216 Metric), 3 PC Pad)
pins: 1 IN, 2 GND (power), 2_1 GND (power), 2_2 GND (power), 3 OUT

## FT230XS-R
designator U?
IC USB SERIAL BASIC UART 16SSOP; Manufacturer: FTDI; Manufacturer Part Number: FT230XS-R; LCSC Part: C69082
footprint 16-SSOP 0.635-5X4MM (Footprint not found)
pins: 1 TXD, 2 RTS#, 3 VCCIO, 4 RXD, 5 GND, 6 CTS#, 7 CBUS2, 8 USBDP, 9 USBDM, 10 3V3OUT, 11 RESET#, 12 VCC, 13 GND, 14 CBUS1, 15 CBUS0, 16 CBUS3

## FUSE_142.5631.6102
designator F?, comment Voltage - Max: 56VDC  Current - Hold (Ih) (Max): 100A  (hidden comment: 142.5631.6102)
FUSE AUTO 100A 58VDC AUTO LINK; Manufacturer: Littelfuse Inc.; Manufacturer Part Number: 142.5631.6102; LCSC Part: C187679
footprint 142.5631.6102 (FUSE)

## FUSE_3557-2
designator F?, comment 3557-2  (value not drawn)
FUSE BLOCK BLADE 500V 30A PCB; Manufacturer: Littelfuse Inc.; Manufacturer Part Number: 3557-2; LCSC Part: C352820
footprint FUSE_Keystone_3557-2
pins: 1, 2, 3, 4

## FUSE_0466005.NRHF
designator F?, comment Voltage - Max: 32V  Current - Hold (Ih) (Max): 5A  (hidden comment: 0466005.NRHF)
FUSE BRD MNT 5A 32VAC 32VDC 1206; Manufacturer: Littelfuse Inc.; Manufacturer Part Number: 0466005.NRHF; LCSC Part: C57525
footprint PTC_1206 (0.126" L x 0.063" W (3.20mm x 1.60mm))
pins: 1, 2

## FUSE_RST-1-BULK
designator F?, comment RST 1-BULK  LCSC Part: C20040871
FUSE BOARD MNT 1A 250VAC RADIAL; Manufacturer: Bel; Manufacturer Part Number: RST 1-BULK; ComponentLink1URL: https://belfuse.com/resources/datasheets/circuitprotection/ds-cp-rst-series.pdf?src-supplier=Digi-Key; ComponentLink1Description: https://belfuse.com/resources/datasheets/circuitprotection/ds-cp-rst-series.pdf?src-supplier=Digi-Key
footprint FUSE_RST-1-BULK
pins: 1, 2

## H1102NL
designator T?
MODULE XFRMR SGL ETHR LAN 16SOIC; Manufacturer: Pulse Electronics; Manufacturer Part Number: H1102NL; LCSC Part: C18584
footprint H1102NL
pins: 1 TD+ (io), 2 CT_1 (io), 3 TD- (io), 4 NC_1 (io), 5 NC_2 (io), 6 RD+ (io), 7 CT_2 (io), 8 RD- (io), 9 RX- (io), 10 NC_3 (io), 11 RX+ (io), 12 NC_4 (io), 13 NC_5 (io), 14 TX- (io), 15 NC_6 (io), 16 TX+ (io)

## HMHA2801
designator OP?
OPTOISO 3.75KV TRANSISTOR 4SMD; Manufacturer: onsemi; Manufacturer Part Number: HMHA2801; LCSC Part: C232857
footprint 4-SOIC (4-SSOP (0.173", 4.40mm Width))
pins: 1 A, 2 C, 3 ET, 4 CT

## ICM-42605
designator U?
IMU ACCEL/GYRO/TEMP I2C/SPI LGA; Manufacturer: TDK InvenSense; Manufacturer Part Number: ICM-42605; LCSC Part: C2655099
footprint LGA14 (14 Lead LGA (2.5x3x0.91) mm)
pins: 1 AP_AD0, 2 RESV, 3 RESV, 4 INT, 5 VDDIO, 6 GND, 7 RESV, 8 VDD, 9 INT2/FSYNC, 10 RESV, 11 RESV, 12 VDDIO, 13 AP_SCL, 14 AP_SDA

## INA139NA/3K
designator U?
IC CURRENT MONITOR 0.5% SOT23-5; Manufacturer: Texas Instruments; Manufacturer Part Number: INA139NA/3K; LCSC Part: C129947
footprint SOT-23-5 (SC-74A, SOT-753)
pins: 1 OUT, 2 GND, 3 VIN+, 4 VIN-, 5 V

## INA180A2IDBVR
designator U?
IC CURR SENSE 1 CIRCUIT SOT23-5; Manufacturer: Texas Instruments; Manufacturer Part Number: INA180A2IDBVR; Datasheet: https://www.ti.com/general/docs/suppproductinfo.tsp?distId=10&gotoUrl=https%3A%2F%2Fwww.ti.com%2Flit%2Fgpn%2Fina180; LCSC Part: C192764
footprint SOT-23-5 (SC-74A, SOT-753)
pins: 1 OUT (out), 2 GND (power), 3 IN+ (in), 4 IN- (in), 5 VS (io)

## INA180B1IDBVT
designator U?
IC CURRENT SENSE 1 CIRCUIT SOT23-5; Manufacturer: Texas Instruments; Manufacturer Part Number: INA180B1IDBVT; Datasheet: https://www.ti.com/general/docs/suppproductinfo.tsp?distId=10&gotoUrl=https%3A%2F%2Fwww.ti.com%2Flit%2Fgpn%2Fina180
footprint SOT-23-5 (SC-74A, SOT-753)
pins: 1 IN+ (in), 2 GND (power), 3 IN- (in), 4 OUT (out), 5 VS (io)

## INA228AIDGSR
designator U?
IC PWR MONITOR 10VSSOP; Manufacturer: Texas Instruments; Manufacturer Part Number: INA228AIDGSR; LCSC Part: C2887910
footprint 10-VSSOP (10-TFSOP, 10-MSOP (0.118", 3.00mm Width))
pins: 1 A1 (in), 2 A0 (in), 3 ALERT (out), 4 SDA (io), 5 SCL (in), 6 VS (power), 7 GND (power), 8 VBUS (in), 9 IN- (in), 10 IN+ (in)

## INDUCTOR_FIXED_74477005
designator L?, comment Inductance: 5.6µH  (hidden comment: 74477005)
FIXED IND 5.6UH 8A 17 MOHM SMD; Manufacturer: Würth Elektronik; Current - Saturation (Isat): 8.2A; DC Resistance (DCR): 17mOhm Max; Manufacturer Part Number: 74477005; Current Rating (Amps): 8 A
footprint INDUCTOR_FIXED_1280 (SMT Shielded Power Inductor, 2-leads, body 12x12mm)
pins: 1, 2

## INDUCTOR_FIXED_744770122
designator L?, comment Inductance: 22µH  (hidden comment: 744770122)
FIXED IND 22UH 4.1A 43 MOHM SMD; Manufacturer: Würth Elektronik; Current Rating (Amps): 4.6A; Current - Saturation (Isat): 5A; DC Resistance (DCR): 43mOhm Max; Manufacturer Part Number: 744770122
footprint INDUCTOR_FIXED_1280 (SMT Shielded Power Inductor, 2-leads, body 12x12mm)
pins: 1, 2

## INDUCTOR_FIXED_744786018A
designator L?, comment Inductance: 1.8 nH  (hidden comment: 744786018A)
FIXED IND 1.8NH 600MA 100MOHM SMD; Manufacturer: Würth Elektronik; DC Resistance (DCR): 100mOhm Max; Manufacturer Part Number: 744786018A; Current Rating (Amps): 600 mA; Current - Saturation (Isat): -; LCSC Part: C2041577
footprint INDUCTOR_FIXED_0603 (SMD Multilayer Ceramic Inductor, body 1.60x0.80mm)
pins: 1, 2

## INDUCTOR_FIXED_7447713680
designator L?, comment Inductance: 68 µH  (hidden comment: 7447713680)
FIXED IND 68UH 1.1A 330 MOHM SMD; Manufacturer: Würth Elektronik; Manufacturer Part Number: 7447713680
footprint INDUCTOR_FIXED_10X10 (SMD Shielded Power Inductor, 2-leads, body 10x10mm)
pins: 1, 2

## INDUCTOR_FIXED_7447779122
designator L?, comment Inductance: 22 µH  (hidden comment: 7447779122)
FIXED IND 22UH 1.41A 110MOHM SMD; Manufacturer: Würth Elektronik; Current - Saturation (Isat): 1.7A; DC Resistance (DCR): 110mOhm Max; Manufacturer Part Number: 7447779122; Current Rating (Amps): 1.41 A
footprint INDUCTOR_FIXED_7.3MMx7.3MM (SMD Shielded Power Inductor, 2-leads, body 7.3x7.3mm)
pins: 1, 2

## INDUCTOR_FIXED_7447860122
designator L?, comment Inductance: 22 nH  (hidden comment: 7447860122)
FIXED IND 22NH 300MA 400MOHM SMD; Manufacturer: Würth Elektronik; DC Resistance (DCR): 400mOhm Max; Manufacturer Part Number: 7447860122; Current Rating (Amps): 300 mA; Current - Saturation (Isat): -
footprint INDUCTOR_FIXED_0603 (SMD Multilayer Ceramic Inductor, body 1.60x0.80mm)
pins: 1, 2

## INDUCTOR_FIXED_74404064180
designator L?, comment Inductance: 18 µH  (hidden comment: 74404064180)  (mechanical)
FIXED IND 18UH 1.85A 81 MOHM SMD; Manufacturer: Würth Elektronik; Current Rating (Amps): 1.8 A; Current - Saturation (Isat): 2.4 A; DC Resistance (DCR): 81mOhm; Manufacturer Part Number: 74404064180
footprint INDUCTOR_FIXED_6045 (SMD Power Inductor, 2-Leads, body 6x6mm)
pins: 1, 2

## INDUCTOR_FIXED_74406043220
designator L?, comment Inductance: 22 µH  (hidden comment: 74406043220)
FIXED IND 22UH 1.23A 172MOHM SMD; Manufacturer: Würth Elektronik; Current - Saturation (Isat): 770mA; DC Resistance (DCR): 172mOhm Max; Manufacturer Part Number: 74406043220; Current Rating (Amps): 1.23 A
footprint INDUCTOR_FIXED_4828 (Footprint not found)
pins: 1, 2

## INDUCTOR_FIXED_74408053004
designator L?, comment Inductance: 4.7 µH  (hidden comment: 74408053004)
FIXED IND 4.7UH 1.4A 100MOHM SMD; Manufacturer: Würth Elektronik; Manufacturer Part Number: 74408053004
footprint INDUCTOR_FIXED_4.9MMX.4.9MM (Footprint not found)
pins: 1, 2

## INDUCTOR_FIXED_74438336100
designator L?, comment Inductance: 10 µH  (hidden comment: 74438336100)
FIXED IND 10UH 1.2A 322 MOHM SMD; Manufacturer: Würth Elektronik; Current - Saturation (Isat): 2.35A; DC Resistance (DCR): 322mOhm Max; Manufacturer Part Number: 74438336100; Current Rating (Amps): 1.2 A
footprint INDUCTOR_FIXED_1212 (0.118" L x 0.118" W (3.00mm x 3.00mm))
pins: 1, 2

## INDUCTOR_FIXED_74438356150
designator L?, comment Inductance: 15 µH  (hidden comment: 74438356150)
FIXED IND 15UH 1.9A 230MOHM SMD; Manufacturer: Würth Elektronik; Current - Saturation (Isat): 2.1 A; DC Resistance (DCR): 230mOhm Max; Manufacturer Part Number: 74438356150; Current Rating (Amps): 1.9 A
footprint INDUCTOR_FIXED_1616 (0.161" L x 0.161" W (4.10mm x 4.10mm))
pins: 1, 2

## INDUCTOR_FIXED_74439344022
designator L?, comment Inductance: 2.2 µH  (hidden comment: 74439344022)
FIXED IND 2.2UH 8A 10.5MOHM SMD; Manufacturer: Würth Elektronik; Current - Saturation (Isat): 16 A; Manufacturer Part Number: 74439344022; Current Rating (Amps): 8 A; DC Resistance (DCR): 10.5mOhm
footprint INDUCTOR_FIXED_6.65mmx6.45mm (SMT Power Inductor, 2-Leads, body 6.65x6.45mm)
pins: 1, 2

## INDUCTOR_FIXED_AIMC-0603-3N9S-T
designator L?, comment Inductance: 3.9 µH  (hidden comment: AIMC-0603-3N9S-T)
FIXED IND 3.9NH 500MA 140MOHM SM; Manufacturer: Abracon LLC; Manufacturer Part Number: AIMC-0603-3N9S-T; LCSC Part: C2042101
footprint INDUCTOR_FIXED_0603 (SMD Multilayer Ceramic Inductor, body 1.60x0.80mm)
pins: 1, 2

## INDUCTOR_FIXED_ASPI-0315FS-3R3M-T2
designator L?, comment Inductance: 3.3µH  (hidden comment: ASPI-0315FS-3R3M-T2)
FIXED IND 3.3UH 1.8A 75 MOHM SMD; Manufacturer: Abracon LLC; Current Rating (Amps): 1.36A; Current - Saturation (Isat): 1.32A; DC Resistance (DCR): 10mOhm Max; Manufacturer Part Number: ASPI-0315FS-3R3M-T2
footprint INDUCTOR_FIXED_1212 (0.118" L x 0.118" W (3.00mm x 3.00mm))
pins: 1, 2

## INDUCTOR_FIXED_CB2012T4R7M
designator L?, comment Inductance: 4.7 µH  (hidden comment: CB2012T4R7M)
FIXED IND 4.7UH 580MA 520MOHM SMD; Manufacturer: Taiyo Yuden; Current - Saturation (Isat): 300mA; DC Resistance (DCR): 520mOhm Max; Manufacturer Part Number: CB2012T4R7M; Current Rating (Amps): 580 mA; LCSC Part: C90313
footprint INDUCTOR_FIXED_0805
pins: 1, 2

## INDUCTOR_FIXED_CBC3225T100MR
designator L?, comment Inductance: 10 µH  (hidden comment: CBC3225T100MR)
FIXED IND 10UH 900MA 172.9 MOHM; Manufacturer: Taiyo Yuden; DC Resistance (DCR): 172.9mOhm Max; Manufacturer Part Number: CBC3225T100MR; Current Rating (Amps): 900mA; Current - Saturation (Isat): 900mA; LCSC Part: C90315
footprint INDUCTOR_FIXED_1210 (0.126" L x 0.098" W (3.20mm x 2.50mm))
pins: 1, 2

## INDUCTOR_FIXED_CI160808-15NJ
designator L?, comment Inductance: 15 nH  (hidden comment: CI160808-15NJ)
FIXED IND 15NH 300MA 450MOHM SMD; Manufacturer: Bourns Inc.; Manufacturer Part Number: CI160808-15NJ; LCSC Part: C3910564
footprint INDUCTOR_FIXED_0603 (SMD Multilayer Ceramic Inductor, body 1.60x0.80mm)
pins: 1, 2

## INDUCTOR_FIXED_LBMF1608T100K
designator L?, comment Inductance: 10 µH  (hidden comment: LBMF1608T100K)
FIXED IND 10UH 80MA 360 MOHM SMD; Manufacturer: Taiyo Yuden; Manufacturer Part Number: LBMF1608T100K; LCSC Part: C87216
footprint INDUCTOR_FIXED_0603 (SMD Multilayer Ceramic Inductor, body 1.60x0.80mm)
pins: 1, 2

## INDUCTOR_FIXED_LQG15HS1N1B02D
designator L?, comment LQG15HS1N1B02D  Inductance: 1.1nH
FIXED IND 1.1NH 1A 70 MOHM SMD; Manufacturer: MURATA; Manufacturer Part Number: LQG15HS1N1B02D; LCSC Part: C6287355
footprint L-0402 (Footprint not found)
pins: 1, 2

## INDUCTOR_FIXED_LQG15HS10NJ02D
designator L?, comment LQG15HS10NJ02D  Inductance: 10nH
FIXED IND 10NH 500MA 260MOHM SMD; Manufacturer: Murata; Manufacturer Part Number: LQG15HS10NJ02D; LCSC Part: C77103
footprint L-0402 (Chip Inductor; Body 1.6 x 0.8 mm (LxW typ))
pins: 1, 2

## INDUCTOR_FIXED_LQH3NPN1R5MJRL
designator L?, comment Inductance: 1.5 µH  (hidden comment: LQH3NPN1R5MJRL)
FIXED IND 1.5UH 1.1A 58.8MOHM SM; Manufacturer: Murata Electronics; Current - Saturation (Isat): 1.95A; DC Resistance (DCR): 58.8mOhm Max; Manufacturer Part Number: LQH3NPN1R5MJRL; Current Rating (Amps): 1.1 A; LCSC Part: C338845
footprint INDUCTOR_FIXED_3mmx3mm (Footprint not found)
pins: 1, 2

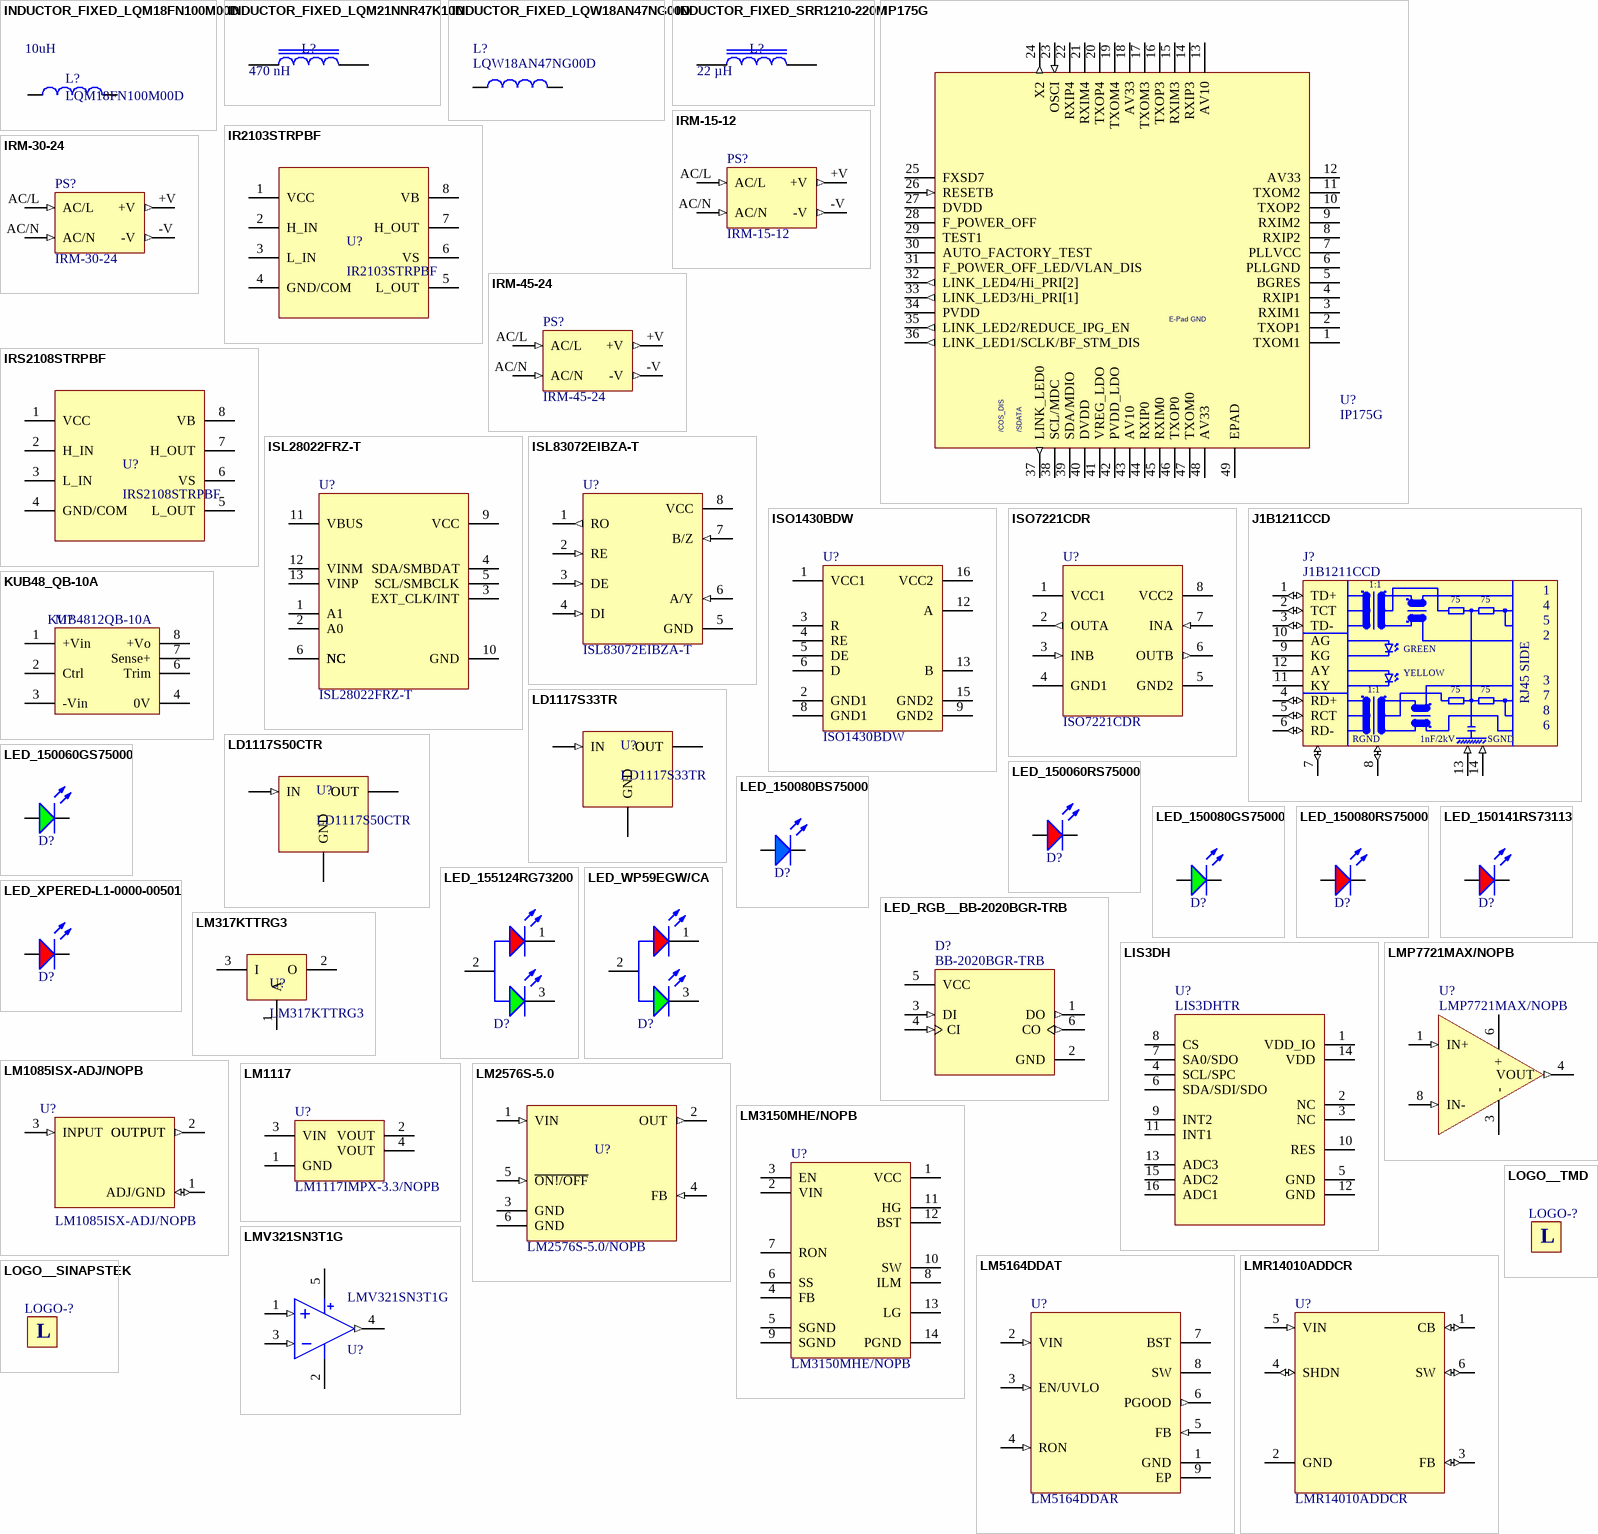
[diagram p7: symbols INDUCTOR_FIXED_LQM18FN100M00D to LOGO__TMD]

## INDUCTOR_FIXED_LQM18FN100M00D
designator L?, comment LQM18FN100M00D  Inductance: 10uH
FIXED IND 10UH 50MA 1.17 OHM SMD; Manufacturer: Murata; Manufacturer Part Number: LQM18FN100M00D; LCSC Part: C86083
footprint INDUCTOR_FIXED_0603 (SMD Multilayer Ceramic Inductor, body 1.60x0.80mm)
pins: 1, 2

## INDUCTOR_FIXED_LQM21NNR47K10D
designator L?, comment Inductance: 470 nH  (hidden comment: LQM21NNR47K10D)
FIXED IND 470NH 200MA 570MOHM SMD; Manufacturer: Murata Electronics; DC Resistance (DCR): 570mOhm Max; Manufacturer Part Number: LQM21NNR47K10D; Current Rating (Amps): 200 mA; Current - Saturation (Isat): -
footprint INDUCTOR_FIXED_0805
pins: 1, 2

## INDUCTOR_FIXED_LQW18AN47NG00D
designator L?, comment LQW18AN47NG00D
FIXED IND 47NH 380MA 0.29OHM SMD; Manufacturer: Murata; Manufacturer Part Number: LQW18AN47NG00D; LCSC Part: C98076
footprint INDUCTOR_FIXED_0603 (SMD Multilayer Ceramic Inductor, body 1.60x0.80mm)
pins: 1, 2

## INDUCTOR_FIXED_SRR1210-220M
designator L?, comment Inductance: 22 µH  (hidden comment: SRR1210-220M)
FIXED IND 22UH 5.2A 38 MOHM SMD; Manufacturer: Bourns; Current - Saturation (Isat): 4.5A; DC Resistance (DCR): 38mOhm Max; Manufacturer Part Number: SRR1210-220M; Current Rating (Amps): 5.2 A; LCSC Part: C338845
footprint INDUCTOR_FIXED_12mmx12mm (0.472" L x 0.472" W (12.00mm x 12.00mm))
pins: 1, 2

## IP175G
designator U?
5 Port 10/100 Ethernet Integrated Switch; Manufacturer: IC Plus; Manufacturer Part Number: IP175G; Datasheet: https://www.micros.com.pl/mediaserver/info-uiip175gh.pdf; LCSC Part: C80220
footprint 48-QFN-EPAD (QFN 48-Leads, Body 6x6mm, Pitch 0.40mm)
pins: 1 TXOM1, 2 TXOP1, 3 RXIM1, 4 RXIP1, 5 BGRES, 6 PLLGND (power), 7 PLLVCC (power), 8 RXIP2, 9 RXIM2, 10 TXOP2, 11 TXOM2, 12 AV33 (power), 13 AV10 (power), 14 RXIP3, 15 RXIM3, 16 TXOP3, 17 TXOM3, 18 AV33 (power), 19 TXOM4, 20 TXOP4, 21 RXIM4, 22 RXIP4, 23 OSCI (in), 24 X2 (out), 25 FXSD7, 26 RESETB (in), 27 DVDD (power), 28 F_POWER_OFF (power), 29 TEST1, 30 AUTO_FACTORY_TEST, 31 F_POWER_OFF_LED/VLAN_DIS, 32 LINK_LED4/Hi_PRI[2] (out), 33 LINK_LED3/Hi_PRI[1] (out), 34 PVDD (power), 35 LINK_LED2/REDUCE_IPG_EN (out), 36 LINK_LED1/SCLK/BF_STM_DIS (out), 37 LINK_LED0 (out), 38 SCL/MDC, 39 SDA/MDIO, 40 DVDD (power), 41 VREG_LDO (power), 42 PVDD_LDO (power), 43 AV10 (power), 44 RXIP0, 45 RXIM0, 46 TXOP0, 47 TXOM0, 48 AV33 (power), 49 EPAD (power)
text: E-Pad GND; /COS_DIS; /SDATA

## IR2103STRPBF
designator U?
IC GATE DRVR HALF-BRIDGE 8SOIC; Manufacturer: Infineon Technologies; Manufacturer Part Number: IR2103STRPBF
footprint SOIC-8 (0.154", 3.90mm Width)
pins: 1 VCC, 2 H_IN, 3 L_IN, 4 GND/COM, 5 L_OUT, 6 VS, 7 H_OUT, 8 VB

## IRM-15-12
designator PS?
AC/DC CONVERTER 12V 15W; Manufacturer: MEAN WELL USA Inc.; Manufacturer Part Number: IRM-15-12; LCSC Part: C6394169
footprint CONV_IRM-15-3.3
pins: +V (out), -V (out), AC/L (in), AC/N (in)

## IRM-30-24
designator PS?
AC/DC CONVERTER 24V 31W; Manufacturer: MEAN WELL USA Inc.; Manufacturer Part Number: IRM-30-24; LCSC Part: C6280124
footprint CONV_IRM-30-24 (Footprint not found)
pins: +V (out), -V (out), AC/L (in), AC/N (in)

## IRM-45-24
designator PS?
AC/DC CONVERTER 24V 46W; Manufacturer: MEAN WELL USA Inc.; Manufacturer Part Number: IRM-45-24; LCSC Part: C5772352
footprint IRM-45-24
pins: +V (out), -V (out), AC/L (in), AC/N (in)

## IRS2108STRPBF
designator U?
IC GATE DRVR HALF-BRIDGE 8SOIC; Manufacturer: Infineon Technologies; Manufacturer Part Number: IRS2108STRPBF; Datasheet: https://rocelec.widen.net/view/pdf/spuj5alwag/IRSDS08085-1.pdf?t.download=true&u=5oefqw
footprint SOIC-8 (0.154", 3.90mm Width)
pins: 1 VCC, 2 H_IN, 3 L_IN, 4 GND/COM, 5 L_OUT, 6 VS, 7 H_OUT, 8 VB

## ISL28022FRZ-T
designator U?
IC PWR MONITOR 16QFN; Manufacturer: Renesas Electronics Corporation; Manufacturer Part Number: ISL28022FRZ-T; LCSC Part: C5741743
footprint 16-VFQFN Exposed Pad (16-VQFN (3x3))
pins: 1 A1, 2 A0, 3 EXT_CLK/INT, 4 SDA/SMBDAT, 5 SCL/SMBCLK, 6 NC, 7 NC, 8 NC, 9 VCC, 10 GND, 11 VBUS, 12 VINM, 13 VINP, 14 NC, 15 NC, 16 NC, 17 EP hidden to GND

## ISL83072EIBZA-T
designator U?
1/1 Transceiver Half RS422, RS485 8-SOIC; Manufacturer: Renesas Electronics America Inc; Manufacturer Part Number: ISL83072EIBZA-T; Datasheet: https://www.renesas.com/us/en/document/dst/isl83071e-isl83072e-isl83073e-isl83075e-isl83076e-isl83077e-isl83078e-isl83070e-datasheet; LCSC Part: C382021
footprint SOIC-8 (0.154", 3.90mm Width)
pins: 1 RO (out), 2 RE (in), 3 DE (in), 4 DI (in), 5 GND (power), 6 A/Y (in), 7 B/Z (in), 8 VCC (power)

## ISO1430BDW
designator U?
IC TXRX/ISO HALF 1/1 16SOIC; Manufacturer: Texas Instruments; Manufacturer Part Number: ISO1430BDW; Datasheet: https://www.ti.com/general/docs/suppproductinfo.tsp?distId=10&gotoUrl=https%3A%2F%2Fwww.ti.com%2Flit%2Fgpn%2Fiso1430
footprint SOIC-16 ((0.295", 7.50mm Width))
pins: 1 VCC1, 2 GND1, 3 R, 4 RE, 5 DE, 6 D, 7 NC hidden, 8 GND1, 9 GND2, 10 NC hidden, 11 NC hidden, 12 A, 13 B, 14 NC hidden, 15 GND2, 16 VCC2

## ISO7221CDR
designator U?
DGTL ISO 2500VRMS 2CH GP 8SOIC; Manufacturer: Texas Instruments; Manufacturer Part Number: ISO7221CDR; LCSC Part: C69151
footprint SOIC-8 (0.154", 3.90mm Width)
pins: 1 VCC1, 2 OUTA (out), 3 INB (in), 4 GND1, 5 GND2, 6 OUTB (out), 7 INA (in), 8 VCC2

## J1B1211CCD
designator J?
CONN JACK 1PORT 100 BASE-T PCB; Manufacturer: WIZnet; Manufacturer Part Number: J1B1211CCD; Datahseet: https://www.wiznet.hk/en/index.php?controller=attachment&id_attachment=2; LCSC Part: C910371
footprint J1B1211CCD
pins: 1 TD+ (io), 2 TCT (io), 3 TD- (io), 4 RD+ (io), 5 RCT (io), 6 RD- (io), 7 NC (io), 8 RGND (io), 9 KG, 10 AG, 11 KY, 12 AY, 13 GND1 (in), 14 GND2 (in)
text: 1:1; 75; GREEN; YELLOW; RJ45 SIDE; 1nF/2kV; SGND

## KUB48_QB-10A
designator M?, comment KUB4812QB-10A
DC/DC CONVERTER 12V 10A; Manufacturer: Mornsun; Manufacturer Part Number: KUB4812QB-10A
footprint KUB48_QB-10A
pins: 1 +Vin, 2 Ctrl, 3 -Vin, 4 0V, 6 Trim, 7 Sense+, 8 +Vo

## LD1117S33TR
designator U?
IC REG LINEAR 3.3V 800MA SOT223; Manufacturer: STMicroelectronics; Manufacturer Part Number: LD1117S33TR; Datasheet: https://www.st.com/content/ccc/resource/technical/document/datasheet/99/3b/7d/91/91/51/4b/be/CD00000544.pdf/files/CD00000544.pdf/jcr:content/translations/en.CD00000544.pdf; LCSC Part: C86781
footprint SOT-223 (TO-261-4, TO-261AA)
pins: 1 GND (power), 2 OUT, 3 IN (in), 4 OUT

## LD1117S50CTR
designator U?
IC REG LINEAR 5V 800MA SOT223; Manufacturer: STMicroelectronics; Manufacturer Part Number: LD1117S50CTR; Datasheet: https://www.st.com/content/ccc/resource/technical/document/datasheet/99/3b/7d/91/91/51/4b/be/CD00000544.pdf/files/CD00000544.pdf/jcr:content/translations/en.CD00000544.pdf; LCSC Part: C81157
footprint SOT-223 (TO-261-4, TO-261AA)
pins: 1 GND (power), 2 OUT, 3 IN (in), 4 OUT

## LED_150060GS75000
designator D?, comment 150060GS75000  (value not drawn)
LED GREEN CLEAR 0603 SMD; Manufacturer: Wurth Elektronik; Dominant Wavelength: 525nm; Forward Voltage: 3.2V; Luminous Intensity: 430mcd; Manufacturer Part Number: 150060GS75000; Emitting Color: Green; LCSC Part: C84264
footprint LED_0603 (SMD Mono-color Chip LED, body 1.6x0.8mm)
pins: 1 K, 2 A

## LED_150060RS75000
designator D?, comment 150060RS75000  (value not drawn)
LED RED CLEAR 0603 SMD; Manufacturer: Wurth Elektronik; Dominant Wavelength: 625nm; Luminous Intensity: 250mcd; Manufacturer Part Number: 150060RS75000; Emitting Color: Red; LCSC Part: NCD0603R1
footprint LED_0603 (SMD Mono-color Chip LED, body 1.6x0.8mm)
pins: 1 K, 2 A

## LED_150080BS75000
designator D?, comment 150080BS75000  (value not drawn)
LED BLUE CLEAR 0805 SMD; Manufacturer: Wurth Elektronik; Dominant Wavelength: 625nm; Luminous Intensity: 150mcd; Manufacturer Part Number: 150080BS75000; Emitting Color: Blue; LCSC Part: C84259
footprint LED_0805 (Footprint not found)
pins: 1 K, 2 A

## LED_150080GS75000
designator D?, comment 150080GS75000  (value not drawn)
LED GREEN CLEAR 0805 SMD; Manufacturer: Wurth Elektronik; Dominant Wavelength: 525nm; Forward Voltage: 3.2V; Luminous Intensity: 450mcd; Manufacturer Part Number: 150080GS75000; Emitting Color: Green; LCSC Part: C84257
footprint LED_0805 (Footprint not found)
pins: 1 K, 2 A

## LED_150080RS75000
designator D?, comment 150080RS75000  (value not drawn)
LED RED CLEAR 0805 SMD; Manufacturer: Wurth Elektronik; Dominant Wavelength: 625nm; Luminous Intensity: 150mcd; Manufacturer Part Number: 150080RS75000; Emitting Color: Red; LCSC Part: C84256
footprint LED_0805 (Footprint not found)
pins: 1 K, 2 A

## LED_150141RS73113
designator D?, comment 150141RS73113  (value not drawn)
LED RED CLEAR 2PLCC SMD; Manufacturer: Würth Elektronik; Manufacturer Part Number: 150141RS73113; LCSC Part: -
footprint LED_3528 (SMD Mono-color TOP LED, body 3.2x2.8mm)
pins: 1 K, 2 A

## LED_155124RG73200
designator D?, comment Red & Green, 120°  (value not drawn)
WL-SBSW SMT Bi-color Side View Waterclear, size 1204, Red & Green, 120°; Manufacturer: Wurth Elektronik; Manufacturer Part Number: 155124RG73200; ComponentLink1Description: Website Link; ComponentLink1URL: https://www.we-online.com/redexpert/article/155124RG73200?ad; ComponentLink2Description: Datasheet Link; ComponentLink2URL: https://www.we-online.com/redexpert/spec/155124RG73200?ad
footprint LED_WL-SBSW_1204 (SMD Bi-color Side view Waterclear, body 3.2x1mm)
pins: 1 K, 2 A, 3 K

## LED_RGB__BB-2020BGR-TRB
designator D?, comment BB-2020BGR-TRB
ADDRESS LED DISCRETE SERIAL RGB; Manufacturer: American Bright; Manufacturer Part Number: BB-2020BGR-TRB; LCSC Part: C22063177
footprint LED_BB-2020BGR-TRB
pins: 1 DO (out), 2 GND (power), 3 DI (in), 4 CI (in), 5 VCC (power), 6 CO (out)

## LED_WP59EGW/CA
designator D?, comment WP59EGW/CA  (value not drawn)
LED GRN/RED DIFFUSED T-1 3/4 T/H; Manufacturer: Kingbright; Manufacturer Part Number: WP59EGW/CA; LCSC Part: C5879015
footprint LED_Radial-3 Leads-5.00MM (Footprint not found)
pins: 1 K, 2 A, 3 K

## LED_XPERED-L1-0000-00501
designator D?, comment XPERED-L1-0000-00501  (value not drawn)
LED XLAMP XPE RED 625NM SMD; Manufacturer: Cree LED; Manufacturer Part Number: XPERED-L1-0000-00501; LCSC Part: C17553377
footprint XPERED-L1-0000-00501 (0.136" L x 0.136" W (3.45mm x 3.45mm))
pins: 1 K, 2 A

## LIS3DH
designator U?, comment LIS3DHTR
ACCEL 2-16G I2C/SPI 16LGA; Manufacturer: STMicroelectronics; Manufacturer Part Number: LIS3DHTR; LCSC Part: C15134
footprint 16-VFLGA (16-LGA (3x3))
pins: 1 VDD_IO, 2 NC, 3 NC, 4 SCL/SPC, 5 GND, 6 SDA/SDI/SDO, 7 SA0/SDO, 8 CS, 9 INT2, 10 RES, 11 INT1, 12 GND, 13 ADC3, 14 VDD, 15 ADC2, 16 ADC1

## LM317KTTRG3
designator U?
IC REG LIN POS ADJ 1.5A DDPAK; Manufacturer: Texas Instruments; Product Status: New Product; Supplier 1: Mouser; Manufacturer Part Number: LM317KTTRG3; RoHS: RoHS Compliant; Stock 1: 0; Pricing 1: 1=0.00 (EUR)
footprint TO-263-3 (10.16 mm × 9.01 mm)
pins: 1 A, 2 O, 3 I

## LM1085ISX-ADJ/NOPB
designator U?
IC REG LIN POS ADJ 3A DDPAK; Manufacturer: Texas Instruments; Manufacturer Part Number: LM1085ISX-ADJ/NOPB; LCSC Part: C189886
footprint TO-263-4 (D2PAK (3 Leads + Tab), TO-263AA, TO-263 (DDPAK-3))
pins: 1 ADJ/GND (io), 2 OUTPUT (out), 3 INPUT (in), 4 OUTPUT (out)